# EAGLE library part ATTANI_BREAKOUT_PINS (library attniy85_prog_shield)
foorprint for the ATtami dev board
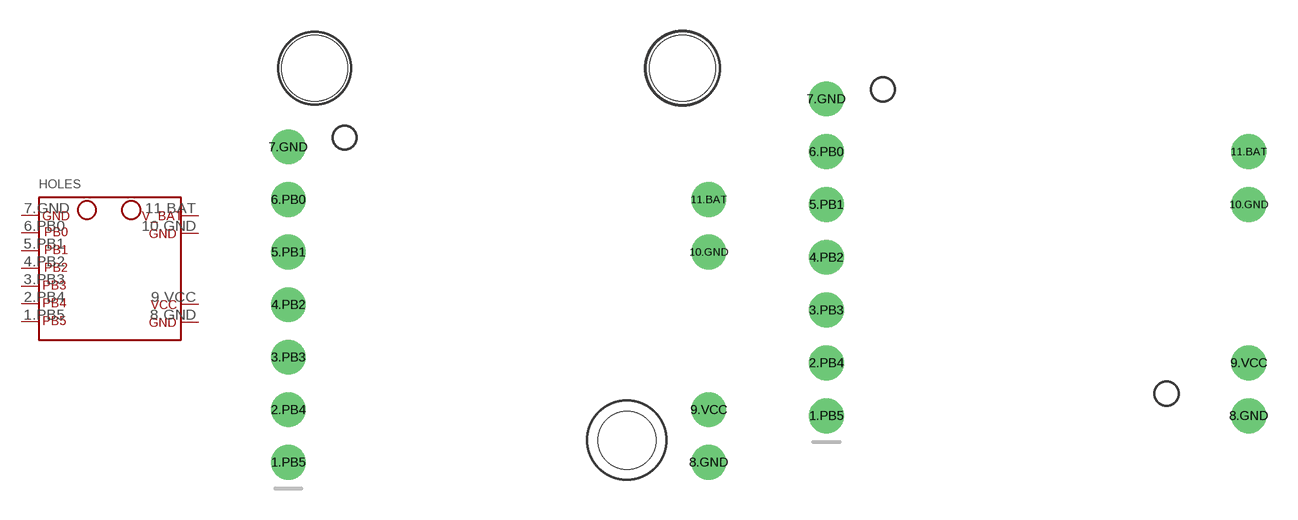
[diagram p3: symbol with the pads of BREAKOUT_ATTAMI; footprints BREAKOUT_ATTAMI, BREAKOUT_TAMI_NOHOLES]

Designator prefix HOLES

## ATTANI_BREAKOUT_PINSHOLES  [BREAKOUT_ATTAMI]
1.PB5  PB5
2.PB4  PB4
3.PB3  PB3
4.PB2  PB2
5.PB1  PB1
6.PB0  PB0
7.GND  GND
8.GND  GND
9.VCC  VCC
10.GND  GND
11.BAT  V_BAT

## ATTANI_BREAKOUT_PINSNOHOLE  [BREAKOUT_TAMI_NOHOLES]
Pads as for BREAKOUT_ATTAMI

## Footprint BREAKOUT_ATTAMI (pad centres in mm)
drill 1 pad 1.676: 1.PB5 1.27,1.27; 2.PB4 1.27,3.81; 3.PB3 1.27,6.35; 4.PB2 1.27,8.89; 5.PB1 1.27,11.43; 6.PB0 1.27,13.97; 7.GND 1.27,16.51; 8.GND 21.59,1.27; 9.VCC 21.59,3.81; 10.GND 21.59,11.43; 11.BAT 21.59,13.97
hole 3.2 at 2.54,20.32
hole 3.2 at 20.32,20.32
hole 2.8 at 17.628,2.337

## Footprint BREAKOUT_TAMI_NOHOLES (pad centres in mm)
drill 1 pad 1.676: 1.PB5 -10.16,-8.89; 2.PB4 -10.16,-6.35; 3.PB3 -10.16,-3.81; 4.PB2 -10.16,-1.27; 5.PB1 -10.16,1.27; 6.PB0 -10.16,3.81; 7.GND -10.16,6.35; 8.GND 10.16,-8.89; 9.VCC 10.16,-6.35; 10.GND 10.16,1.27; 11.BAT 10.16,3.81